# Altium schematic symbol library Schlib.SchLib: 629 symbols (part 21 of 21)
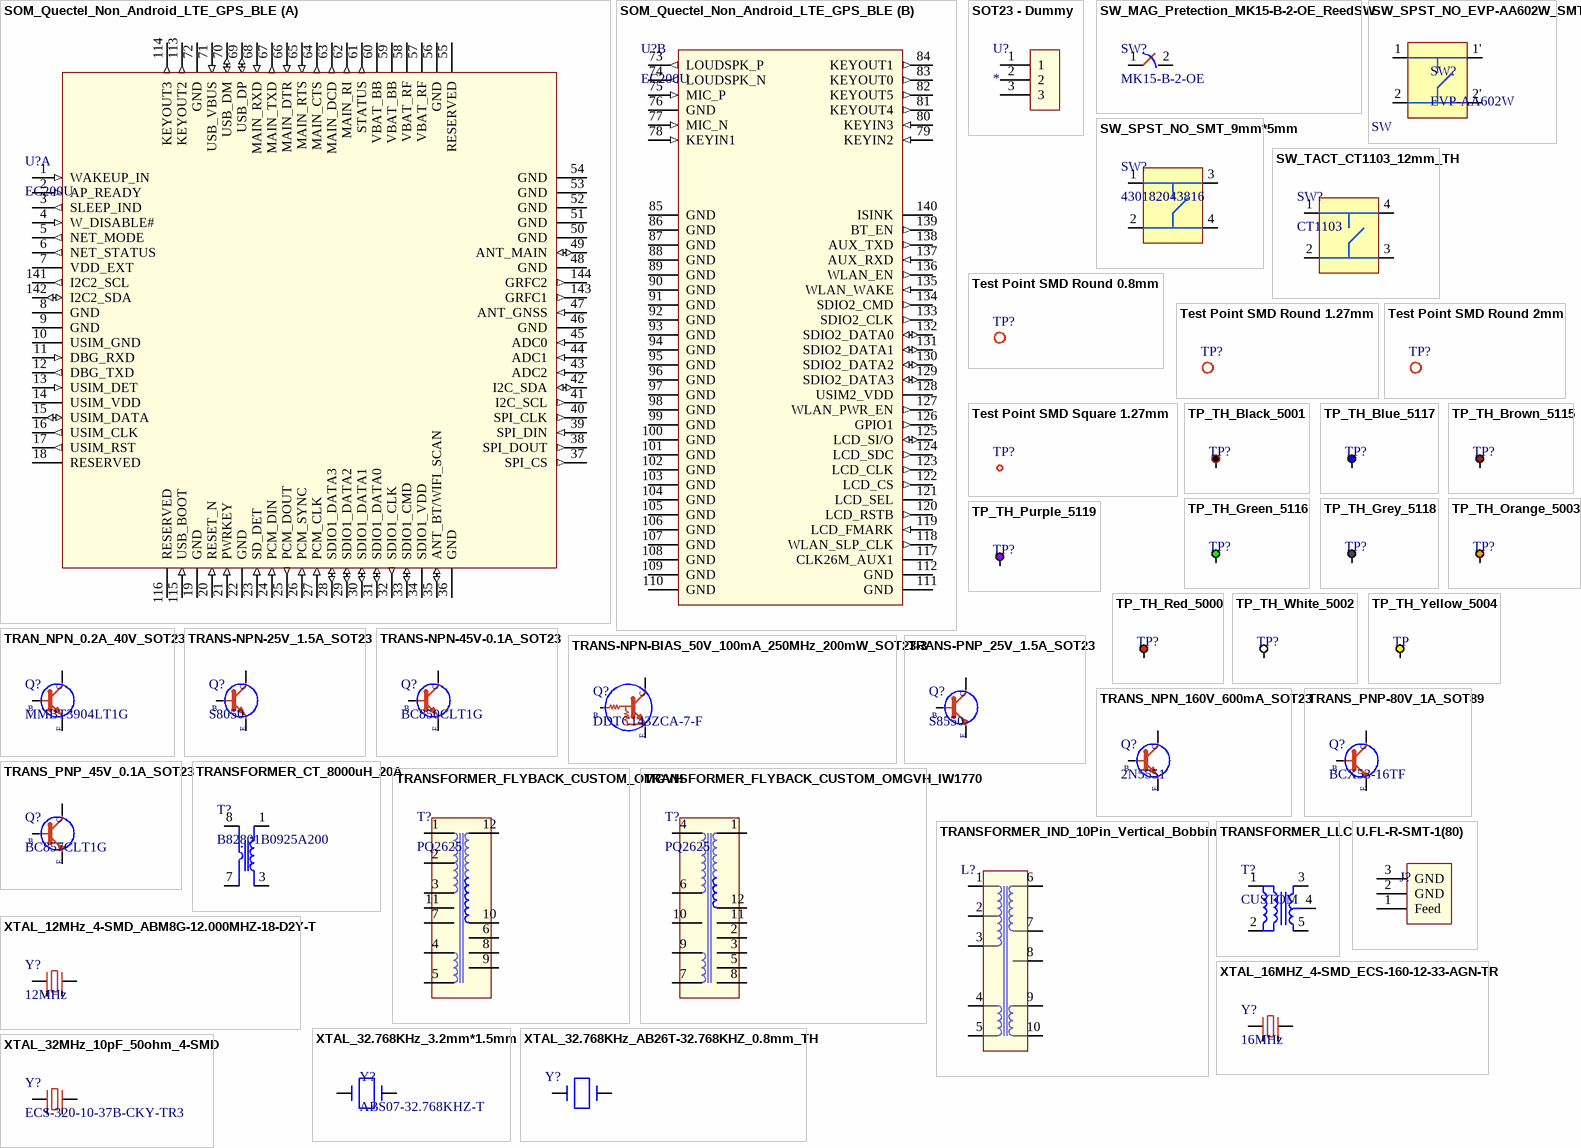
[diagram p38: symbols SOM_Quectel_Non_Android_LTE_GPS_BLE to XTAL_32MHz_10pF_50ohm_4-SMD]

## TRAN_NPN_0.2A_40V_SOT23
designator Q?, comment MMBT3904LT1G
Small Signal Bipolar Transistor, 0.2A I(C), 40V V(BR)CEO, 1-Element, NPN, Silicon, TO-236AB; Manufacturer: ON Semiconductor; Package Body Material: Plastic; Max Collector Current: 200mA; DC Current Gain-Min (hFE): 30; Number of Elements: 1; Power Dissipation-Max (Abs): 300mW; Frequency: 300MHz; Turn-off Time-Max (toff): 250ns; Turn-on Time-Max (ton): 70ns; Time @ Peak Reflow Temperature-Max (s): 40s; Qualification Status: Not Qualified; Supplier: Rs; Supplier Part Number: 5450343; Manufacturer Part Number: MMBT3904LT1G; RoHS: Yes; Category: BJTs; Stock: 6950; Pricing: 50=0.109, 500=0.095, 1000=0.082, 1250=0.064 (CHF); Pins: 3; Package Shape: Rectangular; Terminal Finish: Tin; Transistor Element Material: SILICON; Max Operating Temperature: 150°C; JESD-609 Code: e3; Polarity/Channel Type: NPN; Collector-emitter Voltage-Max: 40V; JESD-30 Code: R-PDSO-G3; Moisture Sensitivity Level: 1; Package Style: SMALL OUTLINEMeter; Surface Mount: Yes; Terminal Form: Gull Wing; Terminal Position: DUAL; Peak Reflow Temperature (Cel): 260°C; JEDEC-95 Code: TO-236AB; Reach SVHC Compliant: Yes; RoHS Compliant: Yes; ComponentLink1URL: https://datasheet.ciiva.com:443/pdfs/VipMasterIC/IC/ONSM/ONSM-S-A0002809816/ONSM-S-A0002809816-1.pdf?src-supplier=IHS+Markit; ComponentLink1Description: https://datasheet.ciiva.com:443/pdfs/VipMasterIC/IC/ONSM/ONSM-S-A0002809816/ONSM-S-A0002809816-1.pdf?src-supplier=IHS+Markit; ComponentLink2URL: https://datasheet.ciiva.com/4723/mmbt3904lt1-d-113169-4723050.pdf?src-supplier=Mouser; ComponentLink2Description: https://datasheet.ciiva.com/4723/mmbt3904lt1-d-113169-4723050.pdf?src-supplier=Mouser; ComponentLink3URL: https://datasheet.ciiva.com/16199/mmbt3904lt1-d-16199009.pdf?src-supplier=Future+Electronics; ComponentLink3Description: https://datasheet.ciiva.com/16199/mmbt3904lt1-d-16199009.pdf?src-supplier=Future+Electronics; ComponentLink4URL: https://datasheet.ciiva.com/15138/getdatasheetpartid-53263-15138779.pdf?src-supplier=Verical; ComponentLink4Description: https://datasheet.ciiva.com/15138/getdatasheetpartid-53263-15138779.pdf?src-supplier=Verical; ComponentLink5URL: https://datasheet.ciiva.com/7972/1708269-7972381.pdf?src-supplier=Element14; ComponentLink5Description: https://datasheet.ciiva.com/7972/1708269-7972381.pdf?src-supplier=Element14; ComponentLink6URL: https://datasheet.ciiva.com/22664/1708269-22664159.pdf?src-supplier=Element14; ComponentLink6Description: https://datasheet.ciiva.com/22664/1708269-22664159.pdf?src-supplier=Element14; ComponentLink7URL: https://datasheet.ciiva.com/14546/70099530-14546188.pdf?src-supplier=Allied+Electronics; ComponentLink7Description: https://datasheet.ciiva.com/14546/70099530-14546188.pdf?src-supplier=Allied+Electronics; ComponentLink8URL: https://datasheet.ciiva.com/11199/mmbt3904lt1-d-11199003.pdf?src-supplier=Avnet; ComponentLink8Description: https://datasheet.ciiva.com/11199/mmbt3904lt1-d-11199003.pdf?src-supplier=Avnet; ComponentLink9URL: https://datasheet.ciiva.com/976/mmbt3904lt1-d-976363.pdf?src-supplier=Digikey; ComponentLink9Description: https://datasheet.ciiva.com/976/mmbt3904lt1-d-976363.pdf?src-supplier=Digikey; ComponentLink10URL: https://datasheet.ciiva.com/976/mmbt3904lt1-d-976364.pdf?src-supplier=Digikey; ComponentLink10Description: https://datasheet.ciiva.com/976/mmbt3904lt1-d-976364.pdf?src-supplier=Digikey; ComponentLink11URL: https://datasheet.ciiva.com/976/mmbt3904lt1-d-976362.pdf?src-supplier=Digikey; ComponentLink11Description: https://datasheet.ciiva.com/976/mmbt3904lt1-d-976362.pdf?src-supplier=Digikey
footprint SOT23
pins: 1 B, 2, 3
text: C; E

## TRANS-NPN-25V_1.5A_SOT23
designator Q?, comment S8050
Small Signal Bipolar Transistor, 1.5A I(C), 25V V(BR)CEO, 1-Element, NPN, Silicon; Manufacturer: MCC; Manufacturer Part Number: MMSS8050-L-TP; Package Body Material: Plastic; DC Current Gain-Min (hFE): 120; Number of Elements: 1; Power Dissipation-Max (Abs): 300mW; Time @ Peak Reflow Temperature-Max (s): 10s; Frequency: 100MHz; Qualification Status: Not Qualified; Supplier: Digikey; Supplier Part Number: MMSS8050-L-TPMSCT-ND; RoHS: Yes; Category: BJTs; Stock: 18261; Pricing: 1=0.14, 10=0.101, 100=0.0544, 500=0.04276, 1000=0.02969 (USD); Pins: 3; Package Shape: Rectangular; Terminal Finish: Tin; Transistor Element Material: SILICON; Max Operating Temperature: 150°C; JESD-609 Code: e3; Polarity/Channel Type: NPN; Max Collector Current: 1.5A; Collector-emitter Voltage-Max: 25V; JESD-30 Code: R-PDSO-G3; Moisture Sensitivity Level: 1; Package Style: SMALL OUTLINEMeter; Peak Reflow Temperature (Cel): 260°C; Surface Mount: Yes; Terminal Form: Gull Wing; Terminal Position: DUAL; Reach SVHC Compliant: Yes; RoHS Compliant: Yes; ComponentLink1URL: https://datasheet.ciiva.com:443/pdfs/VipMasterIC/IC/MCCC/MCCC-S-A0009689717/MCCC-S-A0009689962-1.pdf?src-supplier=IHS+Markit; ComponentLink1Description: https://datasheet.ciiva.com:443/pdfs/VipMasterIC/IC/MCCC/MCCC-S-A0009689717/MCCC-S-A0009689962-1.pdf?src-supplier=IHS+Markit; ComponentLink2URL: https://datasheet.ciiva.com/6362/mmss8050sot-23-6362361.pdf?src-supplier=Digikey; ComponentLink2Description: https://datasheet.ciiva.com/6362/mmss8050sot-23-6362361.pdf?src-supplier=Digikey; ComponentLink3URL: https://datasheet.ciiva.com/16285/mmss8050sot-23-276387-16285577.pdf?src-supplier=Mouser; ComponentLink3Description: https://datasheet.ciiva.com/16285/mmss8050sot-23-276387-16285577.pdf?src-supplier=Mouser; ComponentLink4URL: https://datasheet.ciiva.com/6362/mmss8050sot-23-6362362.pdf?src-supplier=Digikey; ComponentLink4Description: https://datasheet.ciiva.com/6362/mmss8050sot-23-6362362.pdf?src-supplier=Digikey; ComponentLink5URL: https://datasheet.ciiva.com/6362/mmss8050sot-23-6362363.pdf?src-supplier=Digikey; ComponentLink5Description: https://datasheet.ciiva.com/6362/mmss8050sot-23-6362363.pdf?src-supplier=Digikey
footprint SOT23
pins: 1 B, 2, 3
text: C; E

## TRANS-NPN-45V-0.1A_SOT23
designator Q?, comment BC850CLT1G
Small Signal Bipolar Transistor, 0.1A I(C), 45V V(BR)CEO, 1-Element, NPN, Silicon, TO-236; Manufacturer: ON Semiconductor; Package Body Material: Plastic; Number of Elements: 1; Time @ Peak Reflow Temperature-Max (s): 40s; Max Collector Current: 100mA; DC Current Gain-Min (hFE): 420; Power Dissipation-Max (Abs): 300mW; Frequency: 100MHz; Qualification Status: Not Qualified; Supplier: Future Electronics; Supplier Part Number: 5458971; Manufacturer Part Number: BC850CLT1G; RoHS: Yes; Category: BJTs; Stock: 51000; Pricing: 3000=0.0118, 12000=0.0112, 30000=0.0109, 75000=0.0106, 120000=0.0101 (USD); Pins: 3; Terminal Finish: Tin; Package Shape: Rectangular; Transistor Element Material: SILICON; Max Operating Temperature: 150°C; JESD-609 Code: e3; Moisture Sensitivity Level: 1; JESD-30 Code: R-PDSO-G3; Package Style: SMALL OUTLINEMeter; Peak Reflow Temperature (Cel): 260°C; Surface Mount: Yes; Terminal Form: Gull Wing; Terminal Position: DUAL; Polarity/Channel Type: NPN; Collector-emitter Voltage-Max: 45V; Reach SVHC Compliant: Yes; RoHS Compliant: Yes; JEDEC-95 Code: TO-236; ComponentLink1URL: https://datasheet.ciiva.com:443/pdfs/VipMasterIC/IC/ONSM/ONSM-S-A0009451914/ONSM-S-A0009451914-1.pdf?src-supplier=IHS+Markit; ComponentLink1Description: https://datasheet.ciiva.com:443/pdfs/VipMasterIC/IC/ONSM/ONSM-S-A0009451914/ONSM-S-A0009451914-1.pdf?src-supplier=IHS+Markit; ComponentLink2URL: https://datasheet.ciiva.com/7971/1571861-7971973.pdf?src-supplier=Element14; ComponentLink2Description: https://datasheet.ciiva.com/7971/1571861-7971973.pdf?src-supplier=Element14; ComponentLink3URL: https://datasheet.ciiva.com/16291/bc846alt1-d-16291503.pdf?src-supplier=Future+Electronics; ComponentLink3Description: https://datasheet.ciiva.com/16291/bc846alt1-d-16291503.pdf?src-supplier=Future+Electronics; ComponentLink4URL: https://datasheet.ciiva.com/7972/bc846alt1-d-7972206.pdf?src-supplier=Element14; ComponentLink4Description: https://datasheet.ciiva.com/7972/bc846alt1-d-7972206.pdf?src-supplier=Element14; ComponentLink5URL: https://datasheet.ciiva.com/11204/bc846alt1-d-11204376.pdf?src-supplier=Avnet; ComponentLink5Description: https://datasheet.ciiva.com/11204/bc846alt1-d-11204376.pdf?src-supplier=Avnet; ComponentLink6URL: https://datasheet.ciiva.com/976/bc846alt1-d-976401.pdf?src-supplier=Digikey; ComponentLink6Description: https://datasheet.ciiva.com/976/bc846alt1-d-976401.pdf?src-supplier=Digikey; ComponentLink7URL: https://datasheet.ciiva.com/976/bc846alt1-d-976402.pdf?src-supplier=Digikey; ComponentLink7Description: https://datasheet.ciiva.com/976/bc846alt1-d-976402.pdf?src-supplier=Digikey; ComponentLink8URL: https://datasheet.ciiva.com/976/bc846alt1-d-976403.pdf?src-supplier=Digikey; ComponentLink8Description: https://datasheet.ciiva.com/976/bc846alt1-d-976403.pdf?src-supplier=Digikey
footprint SOT23
pins: 1 B, 2, 3
text: C; E

## TRANS-NPN-BIAS_50V_100mA_250MHz_200mW_SOT23-3
designator Q?, comment DDTC143ZCA-7-F
Small Signal Bipolar Transistor, 0.1A I(C), 50V V(BR)CEO, 1-Element, NPN, Silicon; Manufacturer: Diodes; Package Body Material: Plastic; Max Collector Current: 100mA; DC Current Gain-Min (hFE): 80; Number of Elements: 1; Power Dissipation-Max (Abs): 200mW; Time @ Peak Reflow Temperature-Max (s): 40s; Frequency: 250MHz; Qualification Status: Not Qualified; Supplier: Digi-Key; Supplier Part Number: DDTC143ZCA-FDICT-ND; Manufacturer Part Number: DDTC143ZCA-7-F; RoHS: Yes; Category: BJTs; Stock: 1386439; Pricing: 1=0.19, 10=0.136, 100=0.0733, 500=0.0576, 1000=0.04 (USD); Pins: 3; Package Shape: Rectangular; Terminal Finish: Tin; Transistor Element Material: SILICON; Max Operating Temperature: 150°C; JESD-609 Code: e3; Polarity/Channel Type: NPN; Collector-emitter Voltage-Max: 50V; JESD-30 Code: R-PDSO-G3; Moisture Sensitivity Level: 1; Package Style: SMALL OUTLINEMeter; Peak Reflow Temperature (Cel): 260°C; Surface Mount: Yes; Terminal Form: Gull Wing; Terminal Position: DUAL; Reach SVHC Compliant: Yes; RoHS Compliant: Yes; ComponentLink1URL: https://datasheet.ciiva.com:443/pdfs/VipMasterIC/IC/DIOD/DIODS20605/DIODS20605-1.pdf?src-supplier=IHS+Markit; ComponentLink1Description: https://datasheet.ciiva.com:443/pdfs/VipMasterIC/IC/DIOD/DIODS20605/DIODS20605-1.pdf?src-supplier=IHS+Markit; ComponentLink2URL: http://components.arrow.com/part/dataview/41508542S9348013N2867?src-supplier=Arrow+Electronics; ComponentLink2Description: http://components.arrow.com/part/dataview/41508542S9348013N2867?src-supplier=Arrow+Electronics; ComponentLink3URL: http://www.mouser.com/ds/2/115/ds30330-71322.pdf?src-supplier=Mouser; ComponentLink3Description: http://www.mouser.com/ds/2/115/ds30330-71322.pdf?src-supplier=Mouser; ComponentLink4URL: http://www.alliedelec.com/m/d/be0b5f6f3c5081911d08f51c92d34358.pdf?src-supplier=Allied+Electronics; ComponentLink4Description: http://www.alliedelec.com/m/d/be0b5f6f3c5081911d08f51c92d34358.pdf?src-supplier=Allied+Electronics; ComponentLink5URL: http://uk.rs-online.com/webdocs/1321/0900766b81321d3c.pdf?src-supplier=Rs; ComponentLink5Description: http://uk.rs-online.com/webdocs/1321/0900766b81321d3c.pdf?src-supplier=Rs; ComponentLink6URL: https://www.diodes.com/assets/Datasheets/ds30330.pdf?src-supplier=Digi-Key; ComponentLink6Description: https://www.diodes.com/assets/Datasheets/ds30330.pdf?src-supplier=Digi-Key; ComponentLink7URL: https://datasheet.octopart.com/DDTC143ZCA-7-F-Diodes-Inc.-datasheet-46751235.pdf?src-supplier=Farnell; ComponentLink7Description: https://datasheet.octopart.com/DDTC143ZCA-7-F-Diodes-Inc.-datasheet-46751235.pdf?src-supplier=Farnell; ComponentLink8URL: http://www.diodes.com//datasheets/ds30330.pdf?src-supplier=Avnet; ComponentLink8Description: http://www.diodes.com//datasheets/ds30330.pdf?src-supplier=Avnet; ComponentLink9URL: http://www.diodes.com/_files/datasheets/ds30330.pdf?src-supplier=Future+Electronics; ComponentLink9Description: http://www.diodes.com/_files/datasheets/ds30330.pdf?src-supplier=Future+Electronics
footprint SOT23
pins: 1 B, 2, 3
text: C; E

## TRANS-PNP_25V_1.5A_SOT23
designator Q?, comment S8550
Small Signal Bipolar Transistor, 1.5A I(C), 25V V(BR)CEO, 1-Element, PNP, Silicon; Manufacturer: MCC; Manufacturer Part Number: MMSS8550-L-TP; Package Body Material: Plastic; DC Current Gain-Min (hFE): 120; Number of Elements: 1; Power Dissipation-Max (Abs): 625mW; Frequency: 100MHz; Qualification Status: Not Qualified; Supplier: Digikey; Supplier Part Number: MMSS8550-L-TPMSCT-ND; RoHS: Yes; Category: BJTs; Stock: 5543; Pricing: 1=0.2, 10=0.137, 100=0.0667, 500=0.0556, 1000=0.03863 (USD); Pins: 3; Package Shape: Rectangular; Terminal Finish: Tin; Transistor Element Material: SILICON; Max Operating Temperature: 150°C; JESD-609 Code: e3; Polarity/Channel Type: PNP; Max Collector Current: 1.5A; Collector-emitter Voltage-Max: 25V; JESD-30 Code: R-PDSO-G3; Package Style: SMALL OUTLINEMeter; Surface Mount: Yes; Terminal Form: Gull Wing; Terminal Position: DUAL; Reach SVHC Compliant: Yes; RoHS Compliant: Yes; ComponentLink1URL: https://datasheet.ciiva.com:443/pdfs/VipMasterIC/IC/MCCC/MCCC-S-A0009689717/MCCC-S-A0009901735-1.pdf?src-supplier=IHS+Markit; ComponentLink1Description: https://datasheet.ciiva.com:443/pdfs/VipMasterIC/IC/MCCC/MCCC-S-A0009689717/MCCC-S-A0009901735-1.pdf?src-supplier=IHS+Markit; ComponentLink2URL: https://datasheet.ciiva.com/16285/mmss8550sot-23-276396-16285492.pdf?src-supplier=Mouser; ComponentLink2Description: https://datasheet.ciiva.com/16285/mmss8550sot-23-276396-16285492.pdf?src-supplier=Mouser; ComponentLink3URL: https://datasheet.ciiva.com/6356/mmss8550sot-23-6356941.pdf?src-supplier=Digikey; ComponentLink3Description: https://datasheet.ciiva.com/6356/mmss8550sot-23-6356941.pdf?src-supplier=Digikey; ComponentLink4URL: https://datasheet.ciiva.com/6356/mmss8550sot-23-6356886.pdf?src-supplier=Digikey; ComponentLink4Description: https://datasheet.ciiva.com/6356/mmss8550sot-23-6356886.pdf?src-supplier=Digikey; ComponentLink5URL: https://datasheet.ciiva.com/6356/mmss8550sot-23-6356889.pdf?src-supplier=Digikey; ComponentLink5Description: https://datasheet.ciiva.com/6356/mmss8550sot-23-6356889.pdf?src-supplier=Digikey
footprint SOT23
pins: 1 B, 2, 3
text: C; E

## TRANS_NPN_160V_600mA_SOT23
designator Q?, comment 2N5551
NPN Ic=600mA Vceo=160V hfe=80~250 P=225mW SOT-23; Manufacturer: ON Semiconductor; Manufacturer Part Number: MMBT5551LT3G; Max Power Dissipation: 225mW; Max Collector Current: 600mA; Collector-emitter Voltage-Max: 200mV; Collector Base Voltage (VCBO): 180V; Emitter Base Voltage (VEBO): 6V; Collector Emitter Breakdown Voltage: 160V; hFE Min: 80; Collector Emitter Saturation Voltage: 150mV; Power Dissipation: 300mW; Number of Elements: 1; Supplier 1: Digi-Key; RoHS: Yes; Category: BJTs; Stock 1: 6650; Pricing 1: 1=0.17, 10=0.12, 100=0.065, 500=0.05104, 1000=0.03545, 2000=0.02937, 5000=0.02777 (USD); Case/Package: SOT-23-3; Number of Pins: 3; Min Operating Temperature: -55°C; Max Operating Temperature: 150°C; Packaging: Tape and Reel; Series: -; Polarity: NPN; Package Quantity: 10000; Current Rating: 600mA; Max Breakdown Voltage: 160V; Voltage Rating (DC): 160V; Collector Emitter Voltage (VCEO): 160V; Length: 3.04mm; Width: 2.64mm; Height: 1.11mm; Radiation Hardening: No; RoHS Compliant: Yes; Lead Free: Lead Free; ComponentLink1URL: https://datasheet.ciiva.com/4721/mmbt5550lt1-d-111393-4721331.pdf?src-supplier=Mouser; ComponentLink1Description: https://datasheet.ciiva.com/4721/mmbt5550lt1-d-111393-4721331.pdf?src-supplier=Mouser; ComponentLink2URL: https://datasheet.ciiva.com/15138/getdatasheetpartid-69307-15138969.pdf?src-supplier=Verical; ComponentLink2Description: https://datasheet.ciiva.com/15138/getdatasheetpartid-69307-15138969.pdf?src-supplier=Verical; ComponentLink3URL: https://datasheet.ciiva.com/46624/mmbt5550lt1-d-46624373.pdf?src-supplier=Digi-Key; ComponentLink3Description: https://datasheet.ciiva.com/46624/mmbt5550lt1-d-46624373.pdf?src-supplier=Digi-Key; Supplier Part Number 1: MMBT5551LT3GOSCT-ND
footprint SOT23
pins: 1 B, 2, 3
text: C; E

## TRANS_PNP-80V_1A_SOT89
designator Q?, comment BCX53-16TF
Transistor Gp Bjt PNP 80V 1A 3-PIN SC-62 T/r; Manufacturer: Nexperia; Supplier 1: Digi-Key; Manufacturer Part Number: BCX53-16TF; RoHS: No; Category: Transistors; Stock 1: 14092; Pricing 1: 1=0.39, 10=0.276, 100=0.1394, 500=0.12356, 1000=0.09615, 2000=0.08606 (USD); Supplier Part Number 1: 1727-BCX53-16TFCT-ND
footprint SOT89
pins: 1 B, 2,4 3, 3 2
text: C; E

## TRANS_PNP_45V_0.1A_SOT23
designator Q?, comment BC857CLT1G
Small Signal Bipolar Transistor, 0.1A I(C), 45V V(BR)CEO, 1-Element, PNP, Silicon, TO-236AB; Manufacturer: ON Semiconductor; Package Body Material: Plastic; Max Collector Current: 100mA; DC Current Gain-Min (hFE): 420; Number of Elements: 1; Power Dissipation-Max (Abs): 300mW; Frequency: 100MHz; Time @ Peak Reflow Temperature-Max (s): 40s; Qualification Status: Not Qualified; Supplier: Farnell; Supplier Part Number: 2317583; Manufacturer Part Number: BC857CLT1G; RoHS: Yes; Category: BJTs; Stock: 40952; Pricing: 5=0.107, 50=0.0662, 100=0.039, 500=0.0292, 1500=0.0234 (EUR); Pins: 3; Package Shape: Rectangular; Transistor Element Material: SILICON; Terminal Finish: Tin; Max Operating Temperature: 150°C; Polarity/Channel Type: PNP; Collector-emitter Voltage-Max: 45V; JESD-30 Code: R-PDSO-G3; Moisture Sensitivity Level: 1; Package Style: SMALL OUTLINEMeter; Surface Mount: Yes; Terminal Form: Gull Wing; Terminal Position: DUAL; JESD-609 Code: e3; Peak Reflow Temperature (Cel): 260°C; Reach SVHC Compliant: Yes; RoHS Compliant: Yes; JEDEC-95 Code: TO-236AB; ComponentLink1URL: https://datasheet.ciiva.com:443/pdfs/VipMasterIC/IC/ONSM/ONSMS38162/ONSMS38162-1.pdf?src-supplier=IHS+Markit; ComponentLink1Description: https://datasheet.ciiva.com:443/pdfs/VipMasterIC/IC/ONSM/ONSMS38162/ONSMS38162-1.pdf?src-supplier=IHS+Markit
footprint SOT23
pins: 1 B, 2, 3
text: C; E

## TRANSFORMER_CT_8000uH_20A
designator T?, comment B82801B0925A200
Current Sense Transformer, 20A, 1:200; Manufacturer: TDK EPCOS; Load Resistance: 33.24R; Operating Frequency-Max: 1GHz; Operating Frequency-Min: 50MHz; Primary Type: BAR PRIMARY; Secondary Inductance: 9150uH; Supplier: Rs; Supplier Part Number: 8711635P; Manufacturer Part Number: B82801B0925A200; RoHS: Yes; Stock: 92; Pricing: 3=2.523 (EUR); Mounting Technology: Surface Mount; Min Operating Temperature: -40°C; Max Operating Temperature: 130°C; Packaging: Tape and Reel; Peak Primary Current: 20A; Transformer Type: CURRENT SENSE TRANSFORMER; Turns Ratio: 1:200; Length: 8.38mm; Width: 7.11mm; Height: 5.08mm; Reach SVHC Compliant: Yes; RoHS Compliant: Yes; ComponentLink1URL: https://datasheet.ciiva.com:443/pdfs/VipMasterIC/IC/EPCO/EPCOS20193/EPCOS20193-1.pdf?src-supplier=IHS+Markit; ComponentLink1Description: https://datasheet.ciiva.com:443/pdfs/VipMasterIC/IC/EPCO/EPCOS20193/EPCOS20193-1.pdf?src-supplier=IHS+Markit; ComponentLink2URL: http://uk.rs-online.com/webdocs/13dd/0900766b813ddcc2.pdf?src-supplier=Rs; ComponentLink2Description: http://uk.rs-online.com/webdocs/13dd/0900766b813ddcc2.pdf?src-supplier=Rs; ComponentLink3URL: https://www.tdk-electronics.tdk.com/inf/85/ds/b82801b.pdf?src-supplier=Digikey; ComponentLink3Description: https://www.tdk-electronics.tdk.com/inf/85/ds/b82801b.pdf?src-supplier=Digikey
pins: 1, 3, 7, 8

## TRANSFORMER_FLYBACK_CUSTOM_OMGVH
designator T?, comment PQ2625
Custom
footprint PQ2625
pins: 1, 2, 3, 4, 5, 6, 7, 8, 9, 10, 11, 12

## TRANSFORMER_FLYBACK_CUSTOM_OMGVH_IW1770
designator T?, comment PQ2625
Custom
footprint RM8_bobbin
pins: 1, 2, 3, 4 14, 5, 6, 7, 8, 9, 10, 11, 12

## TRANSFORMER_IND_10Pin_Vertical_Bobbin
designator L?
pins: 1, 2, 3, 4, 5, 6, 7, 8, 9, 10

## TRANSFORMER_LLC
designator T?, comment CUSTOM
pins: 1, 2, 3, 4, 5

## U.FL-R-SMT-1(80)
designator J?
RF Connector, 1 Contact(s), Male, Board Mount, Surface Mount Terminal, Receptacle; Manufacturer: Hirose; Manufacturer Part Number: U.FL-R-SMT-1(80); Dielectric Withstanding Voltage (AC): 200V; Durability: 30Cycles; Insulation Resistance: 500MR; Number of Ports: 1; Operating Frequency-Max: 6kHz; Body Breadth: 0.122inch; Body Depth: 0.049inch; Body Length: 0.118inch; Mounting Option 1: LOCKING; Reference Standard: UL; Reliability: COMMERCIAL; Supplier: Digikey; Supplier Part Number: 26-U.FL-R-SMT-1(80)CT-ND; RoHS: Yes; Category: RF / Coaxial Connectors; Stock: 118067; Pricing: 1=1.32, 10=1.114, 25=1.068, 50=1.0454, 100=0.9999, 250=0.909, 500=0.8181, 1000=0.7272, 2500=0.65902 (USD); Mounting Technology: Board; Insulation Material: Polymer; Shell Finish: Silver; Shell Material: CuSn; Min Operating Temperature: -40°C; Max Operating Temperature: 90°C; Connector Type: RF CONNECTOR; Body/Shell Style: RECEPTACLE; Contact Gender: Male; Mounting Style: STRAIGHT; Termination: SMD/SMT; Number of Contacts: 1; Reach SVHC Compliant: Yes; RoHS Compliant: Yes; ComponentLink1URL: https://datasheet.ciiva.com:443/pdfs/VipMasterIC/IC/HIRO/HIRO-S-A0007913874/HIRO-S-A0009147602-1.pdf?src-supplier=IHS+Markit; ComponentLink1Description: https://datasheet.ciiva.com:443/pdfs/VipMasterIC/IC/HIRO/HIRO-S-A0007913874/HIRO-S-A0009147602-1.pdf?src-supplier=IHS+Markit; ComponentLink2URL: https://www.hirose.com/product/en/download_file/key_name/U.FL-R-SMT-1%2880%29/category/Specification%20Sheet/doc_file_id/37638/?file_category_id=9&item_id=03310472280&is_series=&src-supplier=Digikey; ComponentLink2Description: https://www.hirose.com/product/en/download_file/key_name/U.FL-R-SMT-1%2880%29/category/Specification%20Sheet/doc_file_id/37638/?file_category_id=9&item_id=03310472280&is_series=&src-supplier=Digikey; ComponentLink3URL: https://datasheet.octopart.com/U.FL-R-SMT-1%2880%29-Hirose-datasheet-157246094.pdf?src-supplier=LKR; ComponentLink3Description: https://datasheet.octopart.com/U.FL-R-SMT-1%2880%29-Hirose-datasheet-157246094.pdf?src-supplier=LKR
footprint UFL Antenna
pins: 1 Feed, 2 GND, 3 GND

## XTAL_12MHz_4-SMD_ABM8G-12.000MHZ-18-D2Y-T
designator Y?, comment 12MHz
3225 12MHz 18pF ±20ppm -40°C~85°C; Manufacturer: Abracon; Manufacturer Part Number: ABM8G-12.000MHZ-18-D2Y-T; Supplier: Farnell; Supplier Part Number: 2308709; RoHS: Yes; Category: Crystals; Stock: 9221; Pricing: 1=0.424, 50=0.391, 100=0.357, 250=0.341, 500=0.324 (EUR); ComponentLink1URL: https://datasheet.ciiva.com/15116/getdatasheetpartid-719790-15116701.pdf?src-supplier=Verical; ComponentLink1Description: https://datasheet.ciiva.com/15116/getdatasheetpartid-719790-15116701.pdf?src-supplier=Verical; ComponentLink2URL: https://datasheet.ciiva.com/22658/1883677-22658295.pdf?src-supplier=Element14; ComponentLink2Description: https://datasheet.ciiva.com/22658/1883677-22658295.pdf?src-supplier=Element14; ComponentLink3URL: https://datasheet.ciiva.com/855/abm8g-855800.pdf?src-supplier=Digikey; ComponentLink3Description: https://datasheet.ciiva.com/855/abm8g-855800.pdf?src-supplier=Digikey; ComponentLink4URL: https://datasheet.ciiva.com/3176/abm8g-3176012.pdf?src-supplier=Avnet; ComponentLink4Description: https://datasheet.ciiva.com/3176/abm8g-3176012.pdf?src-supplier=Avnet; ComponentLink5URL: https://datasheet.ciiva.com/5788/abm8g-5788063.pdf?src-supplier=Farnell; ComponentLink5Description: https://datasheet.ciiva.com/5788/abm8g-5788063.pdf?src-supplier=Farnell; ComponentLink6URL: https://datasheet.ciiva.com/7998/abm8g-7998614.pdf?src-supplier=Element14; ComponentLink6Description: https://datasheet.ciiva.com/7998/abm8g-7998614.pdf?src-supplier=Element14; ComponentLink7URL: https://datasheet.ciiva.com/28508/1883677-28508552.pdf?src-supplier=Element14; ComponentLink7Description: https://datasheet.ciiva.com/28508/1883677-28508552.pdf?src-supplier=Element14; ComponentLink8URL: https://datasheet.ciiva.com/855/abm8g-855801.pdf?src-supplier=Digikey; ComponentLink8Description: https://datasheet.ciiva.com/855/abm8g-855801.pdf?src-supplier=Digikey; ComponentLink9URL: https://datasheet.ciiva.com/16411/abm8g-16411113.pdf?src-supplier=Future+Electronics; ComponentLink9Description: https://datasheet.ciiva.com/16411/abm8g-16411113.pdf?src-supplier=Future+Electronics; ComponentLink10URL: https://datasheet.ciiva.com/855/abm8g-855802.pdf?src-supplier=Digikey; ComponentLink10Description: https://datasheet.ciiva.com/855/abm8g-855802.pdf?src-supplier=Digikey; ComponentLink11URL: https://datasheet.ciiva.com/4945/abm8g-10572-4945759.pdf?src-supplier=Mouser; ComponentLink11Description: https://datasheet.ciiva.com/4945/abm8g-10572-4945759.pdf?src-supplier=Mouser
footprint XTAL_16MHz_4-SMD
pins: 1, 2, 3, 4

## XTAL_16MHZ_4-SMD_ECS-160-12-33-AGN-TR
designator Y?, comment 16MHz
Parallel - Fundamental Quartz Crystal, 16MHz Nom; Manufacturer: ECS International; Manufacturer Part Number: ECS-160-12-33-AGN-TR; Supplier: Farnell; Supplier Part Number: 4059157; RoHS: Yes; Stock: 41; Pricing: 1=0.352, 50=0.326, 100=0.3, 250=0.288, 500=0.276, 1000=0.267 (EUR); ComponentLink1URL: https://datasheet.ciiva.com:443/pdfs/VipMasterIC/IC/ECSI/ECSI-S-A0004894221/ECSI-S-A0004894221-1.pdf?src-supplier=IHS+Markit; ComponentLink1Description: https://datasheet.ciiva.com:443/pdfs/VipMasterIC/IC/ECSI/ECSI-S-A0004894221/ECSI-S-A0004894221-1.pdf?src-supplier=IHS+Markit; ComponentLink2URL: http://www.ecsxtal.com/store/pdf/ecx-32.pdf?src-supplier=Digikey; ComponentLink2Description: http://www.ecsxtal.com/store/pdf/ecx-32.pdf?src-supplier=Digikey; ComponentLink3URL: https://ecsxtal.com/store/pdf/ecx-32.pdf?src-supplier=Digikey; ComponentLink3Description: https://ecsxtal.com/store/pdf/ecx-32.pdf?src-supplier=Digikey; ComponentLink4URL: https://datasheet.octopart.com/ECS-160-12-33-AGN-TR-ECS-International-datasheet-138896010.pdf?src-supplier=Future+Electronics; ComponentLink4Description: https://datasheet.octopart.com/ECS-160-12-33-AGN-TR-ECS-International-datasheet-138896010.pdf?src-supplier=Future+Electronics
footprint XTAL_16MHz_4-SMD
pins: 1, 2, 3, 4

## XTAL_32.768KHz_3.2mm*1.5mm
designator Y?, comment ABS07-32.768KHZ-T
Parallel - Fundamental Quartz Crystal, 0.032768MHz Nom; Manufacturer: Abracon; Aging: 3 PPM/FIRST YEAR; Drive Level: 0.5uW; Frequency Tolerance: 20ppm; Load Capacitance: 12.5pF; ESR: 70kR; Additional Feature: TAPE AND REEL; Supplier: Mouser; Supplier Part Number: 815-ABS07-32.768KHZT; Manufacturer Part Number: ABS07-32.768KHZ-T; RoHS: Yes; Category: Crystals; Stock: 367534; Pricing: 1=0.65, 10=0.507, 50=0.507, 100=0.485, 1000=0.419, 10000=0.293 (USD); Mounting Technology: Surface Mount; Min Operating Temperature: -40°C; Max Operating Temperature: 85°C; Crystal/Resonator Type: PARALLEL - FUNDAMENTAL; Operating Frequency-Nom: 0.032768; Reach SVHC Compliant: Yes; RoHS Compliant: Yes; ComponentLink1URL: https://datasheet.ciiva.com:443/pdfs/VipMasterIC/IC/ABRC/ABRC-S-A0006623177/ABRC-S-A0006623177-1.pdf?src-supplier=IHS+Markit; ComponentLink1Description: https://datasheet.ciiva.com:443/pdfs/VipMasterIC/IC/ABRC/ABRC-S-A0006623177/ABRC-S-A0006623177-1.pdf?src-supplier=IHS+Markit; ComponentLink2URL: https://datasheet.ciiva.com/7998/1912628-7998667.pdf?src-supplier=Element14; ComponentLink2Description: https://datasheet.ciiva.com/7998/1912628-7998667.pdf?src-supplier=Element14; ComponentLink3URL: https://datasheet.ciiva.com/1357/1883680-1357319.pdf?src-supplier=Element14; ComponentLink3Description: https://datasheet.ciiva.com/1357/1883680-1357319.pdf?src-supplier=Element14; ComponentLink4URL: https://datasheet.ciiva.com/854/abs07-854936.pdf?src-supplier=Digikey; ComponentLink4Description: https://datasheet.ciiva.com/854/abs07-854936.pdf?src-supplier=Digikey; ComponentLink5URL: https://datasheet.ciiva.com/854/abs07-854935.pdf?src-supplier=Digikey; ComponentLink5Description: https://datasheet.ciiva.com/854/abs07-854935.pdf?src-supplier=Digikey; ComponentLink6URL: https://datasheet.ciiva.com/854/abs07-854937.pdf?src-supplier=Digikey; ComponentLink6Description: https://datasheet.ciiva.com/854/abs07-854937.pdf?src-supplier=Digikey; ComponentLink7URL: https://datasheet.ciiva.com/4944/abs07-11028-4944830.pdf?src-supplier=Mouser; ComponentLink7Description: https://datasheet.ciiva.com/4944/abs07-11028-4944830.pdf?src-supplier=Mouser; ComponentLink8URL: https://datasheet.ciiva.com/15214/getdatasheetpartid-727011-15214954.pdf?src-supplier=Verical; ComponentLink8Description: https://datasheet.ciiva.com/15214/getdatasheetpartid-727011-15214954.pdf?src-supplier=Verical
footprint XTAL-3.2mm*1.5mm
pins: 1, 2

## XTAL_32.768KHz_AB26T-32.768KHZ_0.8mm_TH
designator Y?
Parallel - Fundamental Quartz Crystal, 0.032768MHz Nom; Manufacturer: Abracon; Manufacturer Part Number: AB26T-32.768KHZ; Aging: 3 PPM/FIRST YEAR; Drive Level: 1uW; Frequency Stability: 0.0042%; Frequency Tolerance: 20ppm; Load Capacitance: 12.5pF; ESR: 35kR; Supplier: Mouser; Supplier Part Number: 815-AB26T-32.768KHZ; RoHS: Yes; Category: Crystals; Stock: 15210; Pricing: 1=0.29, 10=0.226, 50=0.226, 100=0.216, 1000=0.143, 10000=0.143 (USD); Mounting Technology: Through Hole; Terminal Finish: Tin; Min Operating Temperature: -10°C; Max Operating Temperature: 60°C; JESD-609 Code: e3; Crystal/Resonator Type: PARALLEL - FUNDAMENTAL; Operating Frequency-Nom: 0.032768; Reach SVHC Compliant: Yes; RoHS Compliant: Yes; ComponentLink1URL: https://datasheet.ciiva.com:443/pdfs/VipMasterIC/IC/ABRC/ABRC-S-A0006623177/ABRC-S-A0006623177-1.pdf?src-supplier=IHS+Markit; ComponentLink1Description: https://datasheet.ciiva.com:443/pdfs/VipMasterIC/IC/ABRC/ABRC-S-A0006623177/ABRC-S-A0006623177-1.pdf?src-supplier=IHS+Markit; ComponentLink2URL: https://datasheet.ciiva.com/16506/ab26t-16506517.pdf?src-supplier=Future+Electronics; ComponentLink2Description: https://datasheet.ciiva.com/16506/ab26t-16506517.pdf?src-supplier=Future+Electronics; ComponentLink3URL: https://datasheet.ciiva.com/3174/ab26t-3174133.pdf?src-supplier=Avnet; ComponentLink3Description: https://datasheet.ciiva.com/3174/ab26t-3174133.pdf?src-supplier=Avnet; ComponentLink4URL: https://datasheet.ciiva.com/15223/getdatasheetpartid-720060-15223238.pdf?src-supplier=Verical; ComponentLink4Description: https://datasheet.ciiva.com/15223/getdatasheetpartid-720060-15223238.pdf?src-supplier=Verical; ComponentLink5URL: https://datasheet.ciiva.com/854/ab26t-854460.pdf?src-supplier=Digikey; ComponentLink5Description: https://datasheet.ciiva.com/854/ab26t-854460.pdf?src-supplier=Digikey
footprint TH_0.8mm_XTAL
pins: 1, 2

## XTAL_32MHz_10pF_50ohm_4-SMD
designator Y?, comment ECS-320-10-37B-CKY-TR3
Crystal 32MHz ±10ppm (Tol) ±10ppm (Stability) 10pF FUND 50Ohm 4-Pin Mini-CSMD T/R; Manufacturer: ECS International; Supplier: Mouser; Supplier Part Number: 520-EC3201037BCKYTR3; Manufacturer Part Number: ECS-320-10-37B-CKY-TR3; RoHS: No; Category: LDO; Stock: 8605; Pricing: 1=0.41, 10=0.325, 50=0.325, 100=0.312, 1000=0.271, 10000=0.2 (USD); ComponentLink1URL: https://datasheet.octopart.com/ECS-320-10-37B-CKY-TR3-ECS-International-datasheet-147546299.pdf?src-supplier=Master+Electronics; ComponentLink1Description: https://datasheet.octopart.com/ECS-320-10-37B-CKY-TR3-ECS-International-datasheet-147546299.pdf?src-supplier=Master+Electronics
footprint SMD-4 No Lead
pins: 1, 2, 3, 4

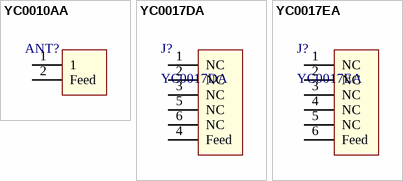
[diagram p18: symbols YC0010AA to YC0017EA]

## YC0010AA
designator ANT?
Manufacturer: Quectel Wireless Solutions; Manufacturer Part Number: YC0010AA; Supplier: Digikey; Supplier Part Number: 2958-YC0010AACT-ND; RoHS: No; Category: RF Antennas; Stock: 8553; Pricing: 1=0.55, 10=0.469, 25=0.4376, 100=0.35, 250=0.325, 500=0.275, 1000=0.2125 (USD)
footprint YC0010AA
pins: 1, 2 Feed

## YC0017DA
designator J?
4G SMD Chip Antenna, 25 X 7 X 3M; Manufacturer: Quectel Wireless Solutions; Supplier: Digikey; Supplier Part Number: 2958-YC0017DACT-ND; Manufacturer Part Number: YC0017DA; RoHS: No; Category: RF Antennas; Stock: 1722; Pricing: 1=1.24, 10=1.106, 25=1.05, 100=0.8625, 250=0.80624, 500=0.7125 (USD)
footprint YC0017DA
pins: 1 NC, 2 NC, 3 NC, 4 Feed, 5 NC, 6 NC

## YC0017EA
designator J?
Manufacturer: Quectel Wireless Solutions; Supplier: Digikey; Supplier Part Number: 2958-YC0017EACT-ND; Manufacturer Part Number: YC0017EA; RoHS: No; Category: Uncategorized; Stock: 2550; Pricing: 1=1.24, 10=1.106, 25=1.05, 100=0.8625, 250=0.80624, 500=0.7125 (USD)
footprint YC0017EA
pins: 1 NC, 2 NC, 3 NC, 4 NC, 5 NC, 6 Feed